# Altium schematic symbol library t5.SchLib: 1 symbol
Pins are listed as number, name and electrical type; pins without a type are passive.

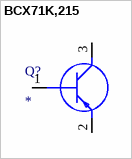
[diagram p0: symbol BCX71K,215]

## BCX71K,215
designator Q?
Transistor BJT PNP; Manufacturer_Name: Nexperia; Manufacturer_Part_Number: BCX71K,215; Datasheet Link: http://assets.nexperia.com/documents/data-sheet/BCX71.pdf; Height: 1.1mm
footprint SOT95P230X110-3N
pins: 1 B, 2 E, 3 C